# EAGLE library part AS-ITM-00035 (library tinycircuits)
CONN HEADER .050" SMD 8POS
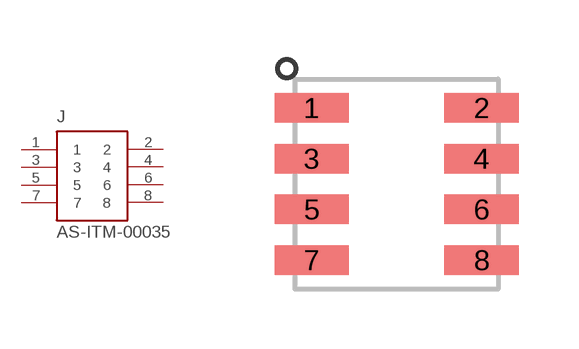
[diagram p12: symbol with the pads of 2X4_.05"_SMT_HEADER; footprint 2X4_.05"_SMT_HEADER]

Designator prefix J

## AS-ITM-00035 (PARTNO: AS-ITM-00035; VALUE: GRPB042VWQS)  [2X4_.05"_SMT_HEADER]
1  1
2  2
3  3
4  4
5  5
6  6
7  7
8  8

## Footprint 2X4_.05"_SMT_HEADER (pad centres in mm)
smd 1.854 x 0.737: 1 -2.125,1.77; 2 2.125,1.77; 3 -2.125,0.5; 4 2.125,0.5; 5 -2.125,-0.77; 6 2.125,-0.77; 7 -2.125,-2.04; 8 2.125,-2.04